# Altium schematic symbol library 1PS79SB70,1151_1PS79SB70,115.schdoc.SCHLIB: 1 symbol
Pins are listed as number, name and electrical type; pins without a type are passive.

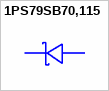
[diagram p0: symbol 1PS79SB70,115]

## 1PS79SB70,115
designator D??  (value not drawn)
Manufacturer: Nexperia(安世); Add into BOM: yes; Forward Voltage (Vf@If): 1V@15mA; Reverse Voltage (Vr): 70V; Average Rectified Current (Io): 70mA; Reverse Leakage Current (Ir): 10uA@70V; Symbol: 1PS79SB70,115; Device: 1PS79SB70,115; Supplier: LCSC; Manufacturer Part: 1PS79SB70,115; Supplier Part: C179321; JLCPCB Part Class: Extended Part; LCSC Part Name: 电压:70V 电流:70mA; Supplier Footprint: SOD-523; Datasheet: https://atta.szlcsc.com/upload/public/pdf/source/20180622/C194653_3DF408F362D9AF6B8137F44B9C19B985.pdf; Convert to PCB: yes
footprint SOD-523_L1.2-W0.8-LS1.6-RD
pins: 1 K, 2 A